# Altium schematic symbol library 901200130.SchLib: 2 symbols
Pins are listed as number, name and electrical type; pins without a type are passive.

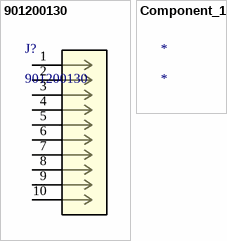
[diagram p0: symbols 901200130 to Component_1]

## 901200130
designator J?
No Description Available; Mfr_Name: Molex Connector Corporation; Copyright: Copyright (C) 2022 Ultra Librarian. All rights reserved.; Manufacturer_Part_Number: 901200130; RefDes: RefDes; Type: DEV
footprint CON_901200130_MOL
pins: 1, 2, 3, 4, 5, 6, 7, 8, 9, 10

## Component_1
designator *